# Altium footprint library SOIC127P600X165-8N.PcbLib: 1 footprints
Each footprint in its own frame and in the unit in brackets; x right, y up, seen from the top. Pads: shape width x height; smd on the part's side, far side on the other; paste and mask are expansions set on the pad; w line width, h text height; cw(c..) or ccw(c..) is an arc to the next point about the centre after c.
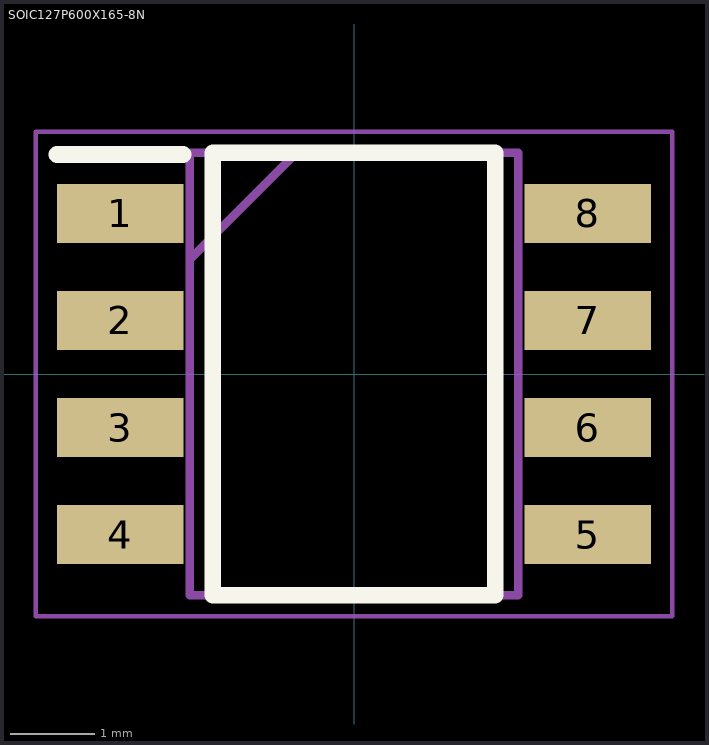
[diagram p0: the footprint, top view; thin cyan lines are the x and y axes]

## SOIC127P600X165-8N [mm]
pads (8):
  rect 1.5x0.7 smd: 1(-2.775,1.905) 2(-2.775,0.635) 3(-2.775,-0.635) 4(-2.775,-1.905) 5(2.775,-1.905) 6(2.775,-0.635) 7(2.775,0.635) 8(2.775,1.905)
Top Overlay:
  lines w0.2: -3.525,2.605 -2.025,2.605 ; -1.675,-2.625 -1.675,2.625 1.675,2.625 1.675,-2.625 -1.675,-2.625
Mechanical 15:
  lines w0.1: -1.95,1.355 -0.68,2.625 ; -1.95,-2.625 -1.95,2.625 1.95,2.625 1.95,-2.625 -1.95,-2.625
Mechanical 20:
  lines w0.05: -3.775,-2.875 -3.775,2.875 3.775,2.875 3.775,-2.875 -3.775,-2.875
3D body "SOP-8.stp": height 1.65, standoff 0, extent -3,-2.625 3,2.625